# Altium footprint library Connectors.PcbLib: 2 footprints
Each footprint in its own frame and in the unit in brackets; x right, y up, seen from the top. Pads: shape width x height; smd on the part's side, far side on the other; paste and mask are expansions set on the pad; w line width, h text height; cw(c..) or ccw(c..) is an arc to the next point about the centre after c.
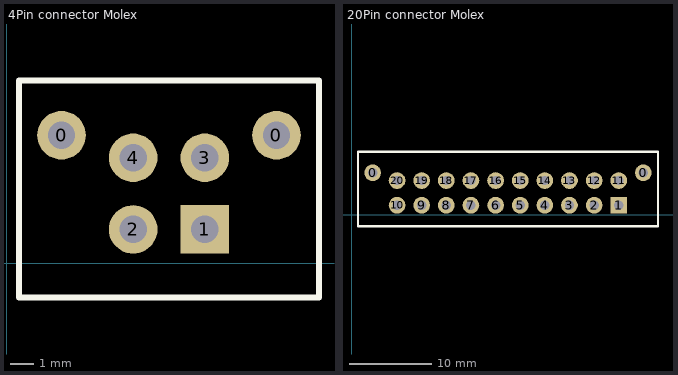
[diagram p0: the footprints below, top view; thin cyan lines are the x and y axes]

## 4Pin connector Molex [mil] "0430450413  Connector Header Through Hole 4 position 0.118\" (3.00mm)"
pads (6):
  round 80 hole 45: 0(90,211) 0(444,211) 2(208,56) 3(326,174) 4(208,174)
  rect 80x80 hole 45: 1(326,56)
Top Overlay:
  lines w10: 20,-56 514,-56 514,301 20,301 20,-56
3D body "430450413.stp": height 394.88, standoff -120.47, extent 67.21,-41.29 466.81,303.98

## 20Pin connector Molex [mil] "43045-2013 Connector Header Through Hole 20 position 0.118\" (3.00mm)"
pads (22):
  round 80 hole 45: 0(100,200) 0(1397,200) 2(1161,45) 3(1043,45) 4(925,45) 5(807,45) 6(689,45) 7(571,45) 8(453,45) 9(335,45) 10(217,45) 11(1279,163) 12(1161,163) 13(1043,163) 14(925,163) 15(807,163) 16(689,163) 17(571,163) 18(453,163) 19(335,163) 20(217,163)
  rect 80x80 hole 45: 1(1279,45)
Top Overlay:
  lines w10: 30,-56 1467,-56 1467,301 30,301 30,-56
3D body "430452013.stp": height 414.88, standoff -100.47, extent 76.76,-50.29 1421.25,294.98